# Altium integrated library 43650-0300.IntLib: 1 symbol
Pins are listed as number, name and electrical type; pins without a type are passive.

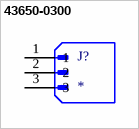
[diagram p0: symbol 43650-0300]

## 43650-0300
designator J?
Connector Header Through Hole, Right Angle 3 position 0.118 (3.00mm); MF: Molex; MP: 43650-0300; Package: None; Purchase-URL: https://pricing.snapeda.com/search/part/43650-0300/?ref=eda; Value: *; Availability: Good; Check_prices: https://www.snapeda.com/parts/43650-0300/Molex/view-part/292155/?ref=eda; SnapEDA_Link: https://www.snapeda.com/parts/43650-0300/Molex/view-part/292155/?ref=snap; Price: None
footprint MOLEX_43650-0300
pins: 1, 2, 3